# Altium footprint library TRANS_BFP183E7764HTSA1 (3).PcbLib: 1 footprints
Each footprint in its own frame and in the unit in brackets; x right, y up, seen from the top. Pads: shape width x height; smd on the part's side, far side on the other; paste and mask are expansions set on the pad; w line width, h text height; cw(c..) or ccw(c..) is an arc to the next point about the centre after c.
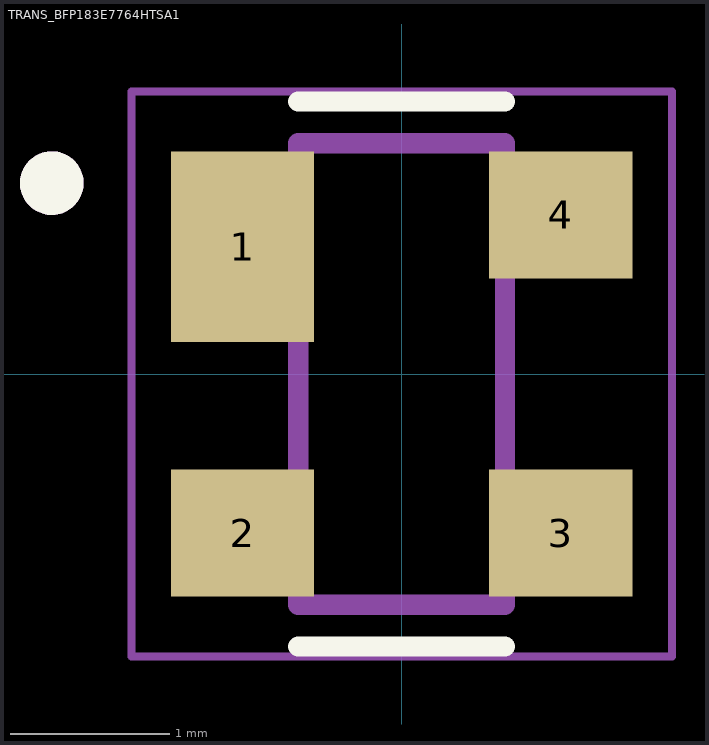
[diagram p0: the footprint, top view; thin cyan lines are the x and y axes]

## TRANS_BFP183E7764HTSA1 [mm]
pads (4):
  rect 0.9x1.2 smd: 1(-1,0.8)
  rect 0.9x0.8 smd: 2(-1,-1) 3(1,-1) 4(1,1)
Top Overlay:
  circle w0.2: c-2.2,1.2 r0.1
  lines w0.127: -0.65,-1.713 0.65,-1.713 ; -0.65,1.713 0.65,1.713
Assembly Top:
  circle w0.2: c-2.2,1.2 r0.1
  lines w0.127: -0.65,-1.45 0.65,-1.45 0.65,1.45 -0.65,1.45 -0.65,-1.45
Courtyard Top:
  lines w0.05: -1.7,-1.777 1.7,-1.777 1.7,1.777 -1.7,1.777 -1.7,-1.777
3D body "step_temp.STEP": height 1.1, standoff 0, extent -1.2,-1.45 1.2,1.45